# Altium schematic symbol library Schlib_soldeerbout.SchLib: 48 symbols
Pins are listed as number, name and electrical type; pins without a type are passive.

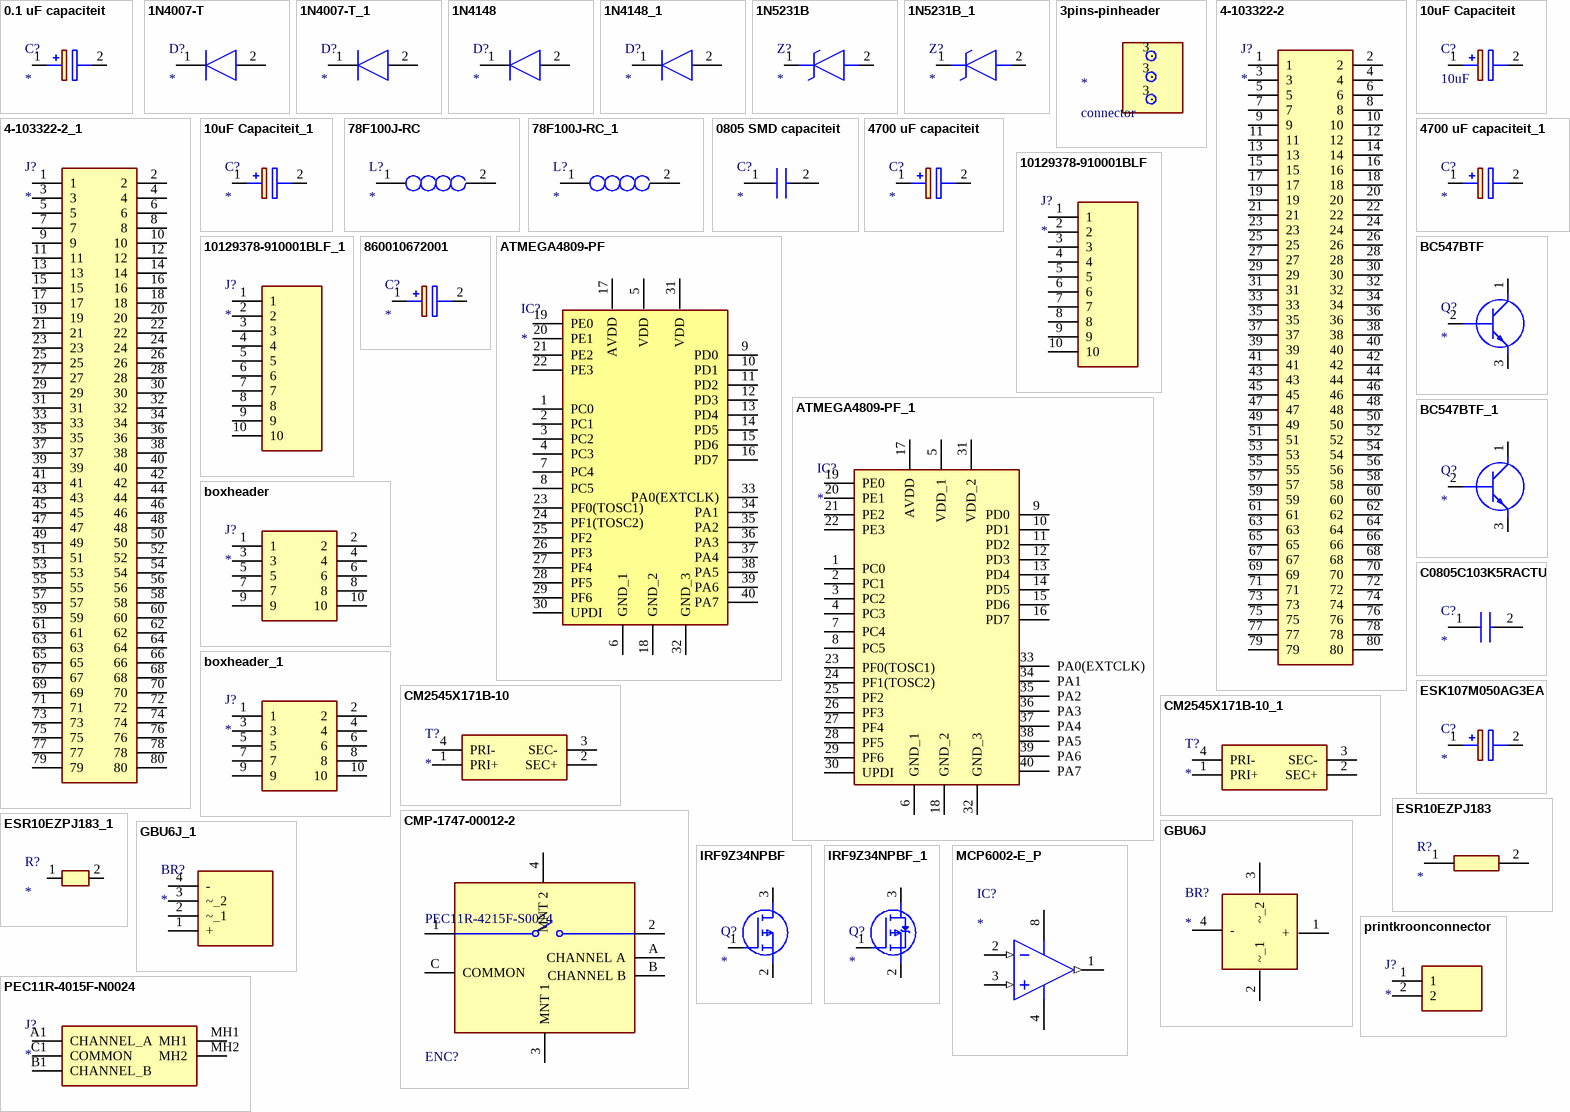
[diagram p0: symbols 0.1 uF capaciteit to printkroonconnector]

## 0.1 uF capaciteit
designator C?
Capacitor Polarised; Manufacturer_Name: Wurth Elektronik; Manufacturer_Part_Number: 860010672001; Datasheet Link: http://katalog.we-online.com/pbs/datasheet/860010672001.pdf; Height: 12.5mm
footprint CAPPRD200W52D500H1250
pins: 1 +, 2 -

## 1N4007-T
designator D?
Diode; Manufacturer_Name: Rectron; Manufacturer_Part_Number: 1N4007-T; Datasheet Link: https://componentsearchengine.com//1N4007-T.pdf; Mouser2 Part Number: 583-1N4007-T; Mouser2 Price/Stock: https://www.mouser.com/Search/Refine.aspx?Keyword=583-1N4007-T
footprint DIOAD1408W86L464D236
pins: 1 K, 2 A

## 1N4007-T_1
designator D?
Diode; Manufacturer_Name: Rectron; Manufacturer_Part_Number: 1N4007-T; Datasheet Link: https://componentsearchengine.com//1N4007-T.pdf; Mouser2 Part Number: 583-1N4007-T; Mouser2 Price/Stock: https://www.mouser.com/Search/Refine.aspx?Keyword=583-1N4007-T
footprint DIOAD1408W86L464D236
pins: 1 K, 2 A

## 1N4148
designator D?
Diode; Manufacturer_Name: Nexperia; Manufacturer_Part_Number: 1N4148; Datasheet Link: https://datasheet.datasheetarchive.com/originals/distributors/Datasheets-112/DSAP0040891.pdf
footprint DIOAD1165W56L425D185
pins: 1 K, 2 A

## 1N4148_1
designator D?
Diode; Manufacturer_Name: Nexperia; Manufacturer_Part_Number: 1N4148; Datasheet Link: https://datasheet.datasheetarchive.com/originals/distributors/Datasheets-112/DSAP0040891.pdf
footprint DIOAD1165W56L425D185
pins: 1 K, 2 A

## 1N5231B
designator Z?
Zener Diode; Manufacturer_Name: ON Semiconductor; Manufacturer_Part_Number: 1N5231B
footprint DIOAD1068W53L380D172
pins: 1 K, 2 A

## 1N5231B_1
designator Z?
Zener Diode; Manufacturer_Name: ON Semiconductor; Manufacturer_Part_Number: 1N5231B
footprint DIOAD1068W53L380D172
pins: 1 K, 2 A

## 3pins-pinheader
designator *, comment connector
pins: 3, 3, 3

## 4-103322-2
designator J?
Connector; Manufacturer_Name: TE Connectivity; Manufacturer_Part_Number: 4-103322-2; Datasheet Link: https://componentsearchengine.com/Datasheets/2/4-103322-2.pdf; Height: 10.363mm
footprint HDRV80W46P254_2X40_10119X488X1036P
pins: 1, 2, 3, 4, 5, 6, 7, 8, 9, 10, 11, 12, 13, 14, 15, 16, 17, 18, 19, 20, 21, 22, 23, 24, 25, 26, 27, 28, 29, 30, 31, 32, 33, 34, 35, 36, 37, 38, 39, 40, 41, 42, 43, 44, 45, 46, 47, 48, 49, 50, 51, 52, 53, 54, 55, 56, 57, 58, 59, 60, 61, 62, 63, 64, 65, 66, 67, 68, 69, 70, 71, 72, 73, 74, 75, 76, 77, 78, 79, 80

## 4-103322-2_1
designator J?
Connector; Manufacturer_Name: TE Connectivity; Manufacturer_Part_Number: 4-103322-2; Datasheet Link: https://componentsearchengine.com/Datasheets/2/4-103322-2.pdf; Height: 10.363mm
footprint HDRV80W46P254_2X40_10119X488X1036P
pins: 1, 2, 3, 4, 5, 6, 7, 8, 9, 10, 11, 12, 13, 14, 15, 16, 17, 18, 19, 20, 21, 22, 23, 24, 25, 26, 27, 28, 29, 30, 31, 32, 33, 34, 35, 36, 37, 38, 39, 40, 41, 42, 43, 44, 45, 46, 47, 48, 49, 50, 51, 52, 53, 54, 55, 56, 57, 58, 59, 60, 61, 62, 63, 64, 65, 66, 67, 68, 69, 70, 71, 72, 73, 74, 75, 76, 77, 78, 79, 80

## 10uF Capaciteit
designator C?, comment 10uF
Capacitor Polarised; Manufacturer_Name: Kemet; Manufacturer_Part_Number: ESS106M050AE2AA; Datasheet Link: https://content.kemet.com/datasheets/KEM_A4057_ESS.pdf; Height: 8.5mm
footprint CAPPRD250W45D630H850
pins: 1 +, 2 -

## 10uF Capaciteit_1
designator C?
Capacitor Polarised; Manufacturer_Name: Kemet; Manufacturer_Part_Number: ESS106M050AE2AA; Datasheet Link: https://content.kemet.com/datasheets/KEM_A4057_ESS.pdf; Height: 8.5mm
footprint CAPPRD250W45D630H850
pins: 1 +, 2 -

## 78F100J-RC
designator L?
Inductor; Manufacturer_Name: Bourns; Manufacturer_Part_Number: 78F100J-RC; Datasheet Link: https://componentsearchengine.com//78F100J-RC.pdf; Mouser2 Part Number: 542-78F100-RC; Mouser2 Price/Stock: https://www.mouser.com/Search/Refine.aspx?Keyword=542-78F100-RC
footprint INDAD1827W51L711D279
pins: 1, 2

## 78F100J-RC_1
designator L?
Inductor; Manufacturer_Name: Bourns; Manufacturer_Part_Number: 78F100J-RC; Datasheet Link: https://componentsearchengine.com//78F100J-RC.pdf; Mouser2 Part Number: 542-78F100-RC; Mouser2 Price/Stock: https://www.mouser.com/Search/Refine.aspx?Keyword=542-78F100-RC
footprint INDAD1827W51L711D279
pins: 1, 2

## 0805 SMD capaciteit
designator C?
Capacitor; Manufacturer_Name: Kemet; Manufacturer_Part_Number: C0805C103K5RACTU; Datasheet Link: https://ms.componentsearchengine.com/Datasheets/2/C0805C103K5RACTU.pdf; Height: 0.88mm
footprint CAPC2012X88N
pins: 1, 2

## 4700 uF capaciteit
designator C?
Capacitor Polarised; Manufacturer_Name: Kemet; Manufacturer_Part_Number: ESK478M050AQ3AA; Datasheet Link: https://componentsearchengine.com//ESK478M050AQ3AA.pdf; Height: 37mm; Mouser2 Part Number: 80-ESK478M050AQ3AA; Mouser2 Price/Stock: https://www.mouser.com/Search/Refine.aspx?Keyword=80-ESK478M050AQ3AA
footprint CAPPRD1000W80D2200H3700
pins: 1 +, 2 -

## 4700 uF capaciteit_1
designator C?
Capacitor Polarised; Manufacturer_Name: Kemet; Manufacturer_Part_Number: ESK478M050AQ3AA; Datasheet Link: https://componentsearchengine.com//ESK478M050AQ3AA.pdf; Height: 37mm; Mouser2 Part Number: 80-ESK478M050AQ3AA; Mouser2 Price/Stock: https://www.mouser.com/Search/Refine.aspx?Keyword=80-ESK478M050AQ3AA
footprint CAPPRD1000W80D2200H3700
pins: 1 +, 2 -

## 10129378-910001BLF
designator J?
Connector; Manufacturer_Name: Amphenol; Manufacturer_Part_Number: 10129378-910001BLF; Datasheet Link: https://cdn.amphenol-icc.com/media/wysiwyg/files/drawing/10129378.pdf; Height: 8.58mm
footprint HDRV10W67P0X254_1X10_2540X241X858P
pins: 1, 2, 3, 4, 5, 6, 7, 8, 9, 10

## 10129378-910001BLF_1
designator J?
Connector; Manufacturer_Name: Amphenol; Manufacturer_Part_Number: 10129378-910001BLF; Datasheet Link: https://cdn.amphenol-icc.com/media/wysiwyg/files/drawing/10129378.pdf; Height: 8.58mm
footprint HDRV10W67P0X254_1X10_2540X241X858P
pins: 1, 2, 3, 4, 5, 6, 7, 8, 9, 10

## 860010672001
designator C?
Capacitor Polarised; Manufacturer_Name: Wurth Elektronik; Manufacturer_Part_Number: 860010672001; Datasheet Link: http://katalog.we-online.com/pbs/datasheet/860010672001.pdf; Height: 12.5mm
footprint CAPPRD200W52D500H1250
pins: 1 +, 2 -

## ATMEGA4809-PF
designator IC?
Integrated Circuit; Manufacturer_Name: Microchip; Manufacturer_Part_Number: ATMEGA4809-PF; Datasheet Link: https://componentsearchengine.com//ATMEGA4809-PF.pdf; Height: 6.35mm; Mouser2 Part Number: 556-ATMEGA4809-PF; Mouser2 Price/Stock: https://www.mouser.com/Search/Refine.aspx?Keyword=556-ATMEGA4809-PF
footprint DIP1543W58P254L5175H635Q40N
pins: 1 PC0, 2 PC1, 3 PC2, 4 PC3, 5 VDD, 6 GND_1, 7 PC4, 8 PC5, 9 PD0, 10 PD1, 11 PD2, 12 PD3, 13 PD4, 14 PD5, 15 PD6, 16 PD7, 17 AVDD, 18 GND_2, 19 PE0, 20 PE1, 21 PE2, 22 PE3, 23 PF0(TOSC1), 24 PF1(TOSC2), 25 PF2, 26 PF3, 27 PF4, 28 PF5, 29 PF6, 30 UPDI, 31 VDD, 32 GND_3, 33 PA0(EXTCLK), 34 PA1, 35 PA2, 36 PA3, 37 PA4, 38 PA5, 39 PA6, 40 PA7

## ATMEGA4809-PF_1
designator IC?
Integrated Circuit; Manufacturer_Name: Microchip; Manufacturer_Part_Number: ATMEGA4809-PF; Datasheet Link: https://componentsearchengine.com//ATMEGA4809-PF.pdf; Height: 6.35mm; Mouser2 Part Number: 556-ATMEGA4809-PF; Mouser2 Price/Stock: https://www.mouser.com/Search/Refine.aspx?Keyword=556-ATMEGA4809-PF
footprint DIP1543W58P254L5175H635Q40N
pins: 1 PC0, 2 PC1, 3 PC2, 4 PC3, 5 VDD_1, 6 GND_1, 7 PC4, 8 PC5, 9 PD0, 10 PD1, 11 PD2, 12 PD3, 13 PD4, 14 PD5, 15 PD6, 16 PD7, 17 AVDD, 18 GND_2, 19 PE0, 20 PE1, 21 PE2, 22 PE3, 23 PF0(TOSC1), 24 PF1(TOSC2), 25 PF2, 26 PF3, 27 PF4, 28 PF5, 29 PF6, 30 UPDI, 31 VDD_2, 32 GND_3, 33 PA0(EXTCLK), 34 PA1, 35 PA2, 36 PA3, 37 PA4, 38 PA5, 39 PA6, 40 PA7

## BC547BTF
designator Q?
Transistor BJT NPN; Manufacturer_Name: ON Semiconductor; Manufacturer_Part_Number: BC547BTF; Datasheet Link: https://www.onsemi.com/pub/Collateral/BC550-D.pdf
footprint BC33740TA
pins: 1 C, 2 B, 3 E

## BC547BTF_1
designator Q?
Transistor BJT NPN; Manufacturer_Name: ON Semiconductor; Manufacturer_Part_Number: BC547BTF; Datasheet Link: https://www.onsemi.com/pub/Collateral/BC550-D.pdf
footprint BC33740TA
pins: 1 C, 2 B, 3 E

## boxheader
designator J?
Connector; Manufacturer_Name: Wurth Elektronik; Manufacturer_Part_Number: 61201021621; Datasheet Link: https://componentsearchengine.com//61201021621.pdf; Height: 9.25mm; Mouser2 Part Number: 710-61201021621; Mouser2 Price/Stock: https://www.mouser.com/Search/Refine.aspx?Keyword=710-61201021621
footprint SHDR10W64P254_2X5_2036X885X925P
pins: 1, 2, 3, 4, 5, 6, 7, 8, 9, 10

## boxheader_1
designator J?
Connector; Manufacturer_Name: Wurth Elektronik; Manufacturer_Part_Number: 61201021621; Datasheet Link: https://componentsearchengine.com//61201021621.pdf; Height: 9.25mm; Mouser2 Part Number: 710-61201021621; Mouser2 Price/Stock: https://www.mouser.com/Search/Refine.aspx?Keyword=710-61201021621
footprint SHDR10W64P254_2X5_2036X885X925P
pins: 1, 2, 3, 4, 5, 6, 7, 8, 9, 10

## C0805C103K5RACTU
designator C?
Capacitor; Manufacturer_Name: Kemet; Manufacturer_Part_Number: C0805C103K5RACTU; Datasheet Link: https://ms.componentsearchengine.com/Datasheets/2/C0805C103K5RACTU.pdf; Height: 0.88mm
footprint CAPC2012X88N
pins: 1, 2

## CM2545X171B-10
designator T?
Transformer; Manufacturer_Name: Laird Technologies; Manufacturer_Part_Number: CM2545X171B-10; Datasheet Link: https://datasheet.datasheetarchive.com/originals/dk/DKDS-7/122753.pdf; Height: 9.5mm
footprint CM2545X171B10
pins: 1 PRI+, 2 SEC+, 3 SEC-, 4 PRI-

## CM2545X171B-10_1
designator T?
Transformer; Manufacturer_Name: Laird Technologies; Manufacturer_Part_Number: CM2545X171B-10; Datasheet Link: https://datasheet.datasheetarchive.com/originals/dk/DKDS-7/122753.pdf; Height: 9.5mm
footprint CM2545X171B10
pins: 1 PRI+, 2 SEC+, 3 SEC-, 4 PRI-

## CMP-1747-00012-2
designator ENC?, comment PEC11R-4215F-S0024
ROTARY ENCODER MECHANICAL 24PPR; Hole Diameter: 1.8mm; Output Type: Quadrature; Pulses per Revolution: 24; Number of Channels: 2; Built in Switch: Yes; Min Operating Temperature: -30°C; Series: PEC11R; Type: Mechanical; Package Quantity: 150; Length: 21.5mm; Max Operating Temperature: 70°C; Encoder Type: Mechanical; Height: 13.4mm; Detent: Yes; Packaging: Bulk; Orientation: Vertical; Width: 12.5mm; Termination: PC Pins; Mount: Through Hole; REACH SVHC: No SVHC; Radiation Hardening: No; RoHS Compliant: Yes
footprint FP-PEC11R-4215F-S0024-MFG
pins: 1, 2, 3 MNT 1, 4 MNT 2, A CHANNEL A, B CHANNEL B, C COMMON

## ESK107M050AG3EA
designator C?
Capacitor Polarised; Manufacturer_Name: Kemet; Manufacturer_Part_Number: ESK107M050AG3EA; Height: 12.5mm
footprint CAPPRD350W60D800H1250
pins: 1 +, 2 -

## ESR10EZPJ183
designator R?
Resistor; Manufacturer_Name: ROHM Semiconductor; Manufacturer_Part_Number: ESR10EZPJ183; Datasheet Link: https://datasheet.datasheetarchive.com/originals/distributors/Datasheets_SAMA/30ccb516c688c96e56c83a00b77a93f4.pdf; Height: 0.65mm
footprint RESC2012X65N
pins: 1, 2

## ESR10EZPJ183_1
designator R?
Resistor; Manufacturer_Name: ROHM Semiconductor; Manufacturer_Part_Number: ESR10EZPJ183; Datasheet Link: https://datasheet.datasheetarchive.com/originals/distributors/Datasheets_SAMA/30ccb516c688c96e56c83a00b77a93f4.pdf; Height: 0.65mm
footprint RESC2012X65N
pins: 1, 2

## GBU6J
designator BR?
Bridge Rectifier; Manufacturer_Name: GeneSiC Semiconductor; Manufacturer_Part_Number: GBU6J; Datasheet Link: https://www.diodemodule.com/silicon_products/bridge_rectifiers/gbu6j.pdf; Height: 18.8mm
footprint GBU6J
pins: 1 +, 2 ~_1, 3 ~_2, 4 -

## GBU6J_1
designator BR?
Bridge Rectifier; Manufacturer_Name: GeneSiC Semiconductor; Manufacturer_Part_Number: GBU6J; Datasheet Link: https://www.diodemodule.com/silicon_products/bridge_rectifiers/gbu6j.pdf; Height: 18.8mm
footprint GBU6J
pins: 1 +, 2 ~_1, 3 ~_2, 4 -

## IRF9Z34NPBF
designator Q?
MOSFET (P-Channel); Manufacturer_Name: Infineon; Manufacturer_Part_Number: IRF9Z34NPBF; Datasheet Link: https://componentsearchengine.com//IRF9Z34NPBF.pdf; Height: 4.69mm; Mouser2 Part Number: 942-IRF9Z34NPBF; Mouser2 Price/Stock: https://www.mouser.com/Search/Refine.aspx?Keyword=942-IRF9Z34NPBF
footprint TO254P469X1042X1967-3P
pins: 1 G, 2 S, 3 D

## IRF9Z34NPBF_1
designator Q?
MOSFET (P-Channel); Manufacturer_Name: Infineon; Manufacturer_Part_Number: IRF9Z34NPBF; Datasheet Link: https://componentsearchengine.com//IRF9Z34NPBF.pdf; Height: 4.69mm; Mouser2 Part Number: 942-IRF9Z34NPBF; Mouser2 Price/Stock: https://www.mouser.com/Search/Refine.aspx?Keyword=942-IRF9Z34NPBF
footprint TO254P469X1042X1967-3P
pins: 1 G, 2 S, 3 D

## MCP6002-E_P
designator IC?
Integrated Circuit; Manufacturer_Name: Microchip; Manufacturer_Part_Number: MCP6002-E/P; Datasheet Link: https://componentsearchengine.com//MCP6002-E_P.pdf; Height: 5.334mm; Mouser2 Part Number: 579-MCP6002-E/P; Mouser2 Price/Stock: https://www.mouser.com/Search/Refine.aspx?Keyword=579-MCP6002-E%2FP
footprint DIP781W56P254L950H533Q8N
footprint Part B (Footprint not found)
pins: 1 VOUTA (out), 2 VINA- (in), 3 VINA+ (in), 4 VSS (power), 8 VDD (power)

## PEC11R-4015F-N0024
designator J?
Connector; Manufacturer_Name: Bourns; Manufacturer_Part_Number: PEC11R-4015F-N0024; Datasheet Link: https://www.bourns.com/docs/Product-Datasheets/PEC11R.pdf; Height: 22mm
footprint PEC11R4015FN0024
pins: A1 CHANNEL_A, B1 CHANNEL_B, C1 COMMON, MH1, MH2

## printkroonconnector
designator J?
Connector; Manufacturer_Name: Phoenix Contact; Manufacturer_Part_Number: 1729128; Datasheet Link: http://www.phoenixcontact.com/de/produkte/1729128/pdf; Height: 10.15mm
footprint 1729128
pins: 1, 2

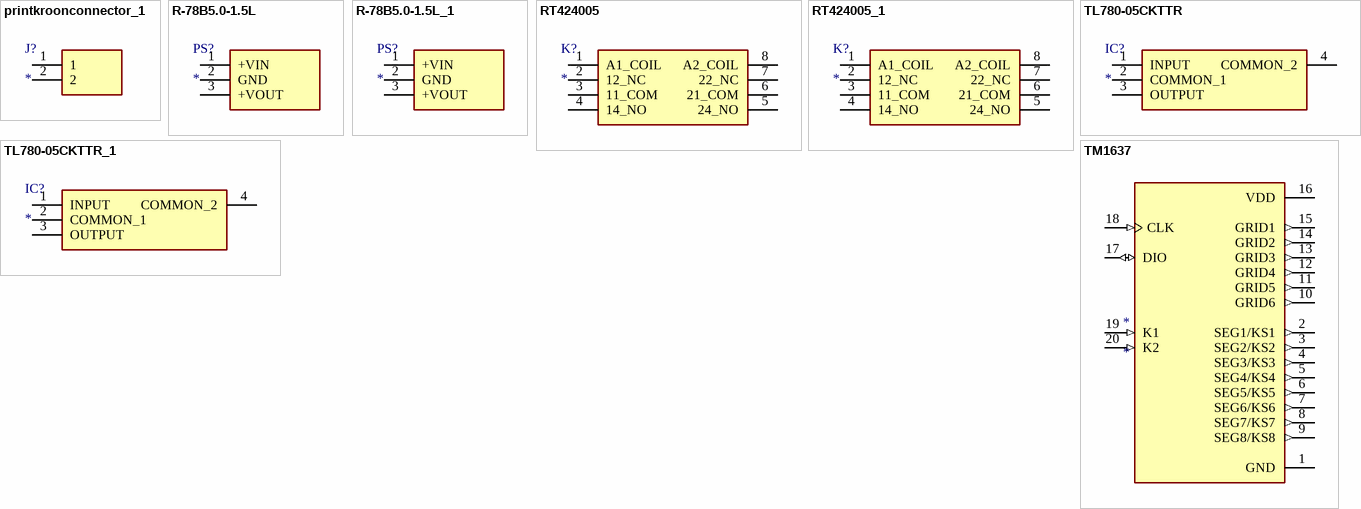
[diagram p1: symbols printkroonconnector_1 to TM1637]

## printkroonconnector_1
designator J?
Connector; Manufacturer_Name: Phoenix Contact; Manufacturer_Part_Number: 1729128; Datasheet Link: http://www.phoenixcontact.com/de/produkte/1729128/pdf; Height: 10.15mm
footprint 1729128
pins: 1, 2

## R-78B5.0-1.5L
designator PS?
Power Supply; Manufacturer_Name: RECOM Power; Manufacturer_Part_Number: R-78B5.0-1.5L; Datasheet Link: https://componentsearchengine.com//R-78B5.0-1.5L.pdf; Height: 9mm; Mouser2 Part Number: 919-R-78B5.0-1.5L; Mouser2 Price/Stock: https://www.mouser.com/Search/Refine.aspx?Keyword=919-R-78B5.0-1.5L
footprint R78B5015L
pins: 1 +VIN, 2 GND, 3 +VOUT

## R-78B5.0-1.5L_1
designator PS?
Power Supply; Manufacturer_Name: RECOM Power; Manufacturer_Part_Number: R-78B5.0-1.5L; Datasheet Link: https://componentsearchengine.com//R-78B5.0-1.5L.pdf; Height: 9mm; Mouser2 Part Number: 919-R-78B5.0-1.5L; Mouser2 Price/Stock: https://www.mouser.com/Search/Refine.aspx?Keyword=919-R-78B5.0-1.5L
footprint R78B5015L
pins: 1 +VIN, 2 GND, 3 +VOUT

## RT424005
designator K?
Relay or Contactor; Manufacturer_Name: TE Connectivity; Manufacturer_Part_Number: RT424005; Datasheet Link: https://componentsearchengine.com//RT424005.pdf; Mouser2 Part Number: 655-RT424005; Mouser2 Price/Stock: https://www.mouser.com/Search/Refine.aspx?Keyword=655-RT424005
footprint RT42
pins: 1 A1_COIL, 2 12_NC, 3 11_COM, 4 14_NO, 5 24_NO, 6 21_COM, 7 22_NC, 8 A2_COIL

## RT424005_1
designator K?
Relay or Contactor; Manufacturer_Name: TE Connectivity; Manufacturer_Part_Number: RT424005; Datasheet Link: https://componentsearchengine.com//RT424005.pdf; Mouser2 Part Number: 655-RT424005; Mouser2 Price/Stock: https://www.mouser.com/Search/Refine.aspx?Keyword=655-RT424005
footprint RT42
pins: 1 A1_COIL, 2 12_NC, 3 11_COM, 4 14_NO, 5 24_NO, 6 21_COM, 7 22_NC, 8 A2_COIL

## TL780-05CKTTR
designator IC?
Integrated Circuit; Manufacturer_Name: Texas Instruments; Manufacturer_Part_Number: TL780-05CKTTR; Datasheet Link: http://www.ti.com/general/docs/suppproductinfo.tsp?distId=26&gotoUrl=http%3A%2F%2Fwww.ti.com%2Flit%2Fgpn%2Ftl780; Height: 5.08mm
footprint TL78005CKTTR
pins: 1 INPUT, 2 COMMON_1, 3 OUTPUT, 4 COMMON_2

## TL780-05CKTTR_1
designator IC?
Integrated Circuit; Manufacturer_Name: Texas Instruments; Manufacturer_Part_Number: TL780-05CKTTR; Datasheet Link: http://www.ti.com/general/docs/suppproductinfo.tsp?distId=26&gotoUrl=http%3A%2F%2Fwww.ti.com%2Flit%2Fgpn%2Ftl780; Height: 5.08mm
footprint TL78005CKTTR
pins: 1 INPUT, 2 COMMON_1, 3 OUTPUT, 4 COMMON_2

## TM1637
designator *
pins: 1 GND (power), 2 SEG1/KS1 (out), 3 SEG2/KS2 (out), 4 SEG3/KS3 (out), 5 SEG4/KS4 (out), 6 SEG5/KS5 (out), 7 SEG6/KS6 (out), 8 SEG7/KS7 (out), 9 SEG8/KS8 (out), 10 GRID6 (out), 11 GRID5 (out), 12 GRID4 (out), 13 GRID3 (out), 14 GRID2 (out), 15 GRID1 (out), 16 VDD (power), 17 DIO (io), 18 CLK (in), 19 K1 (in), 20 K2 (in)